# Altium schematic symbol library TPS7A2118PQWDRBRQ1.SchLib: 1 symbol
Pins are listed as number, name and electrical type; pins without a type are passive.

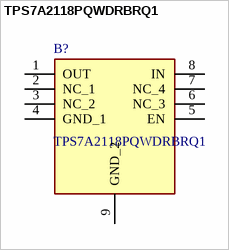
[diagram p0: symbol TPS7A2118PQWDRBRQ1]

## TPS7A2118PQWDRBRQ1
designator B?
Linear Voltage Regulator IC Positive Fixed 1 Output 500mA 8-SON (3x3), -40C ~ 150C (TJ); Manufacturer_Name: Texas Instruments; Geometry.Height: 1mm; Manufacturer_Part_Number: TPS7A2118PQWDRBRQ1; Mouser Part Number: 595-7A2118PQWDRBRQ1; Mouser Price/Stock: https://www.mouser.co.uk/ProductDetail/Texas-Instruments/TPS7A2118PQWDRBRQ1?qs=dbcCsuKDzFX2e%252Bp94sZFQg%3D%3D; Arrow Part Number: TPS7A2118PQWDRBRQ1; Arrow Price/Stock: https://www.arrow.com/en/products/tps7a2118pqwdrbrq1/texas-instruments?utm_currency=USD&region=nac; Datasheet Link: https://www.ti.com/lit/gpn/tps7a21-q1
footprint SON65P300X300X100-9N-D
pins: 1 OUT, 2 NC_1, 3 NC_2, 4 GND_1, 5 EN, 6 NC_3, 7 NC_4, 8 IN, 9 GND_2